# Altium schematic symbol library psmn2r0-25mldx.SchLib: 1 symbol
Pins are listed as number, name and electrical type; pins without a type are passive.

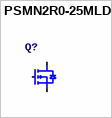
[diagram p0: symbol PSMN2R0-25MLDX]

## PSMN2R0-25MLDX
designator Q?
N-Channel 25 V 70A (Tc) 74W (Tc) Surface Mount LFPAK33
pins: 1, 2, 3, 4, 5